# EAGLE library part SAMTEC_LSHM-150-DV_JB2 (library df4iah_connector)
SAMTEC LSHM-150-XX.X-X-DV-A-X-X-TR HIGH-SPEED HERMAPHRODITIC STRIP 100 Pos 0.5 mm padding
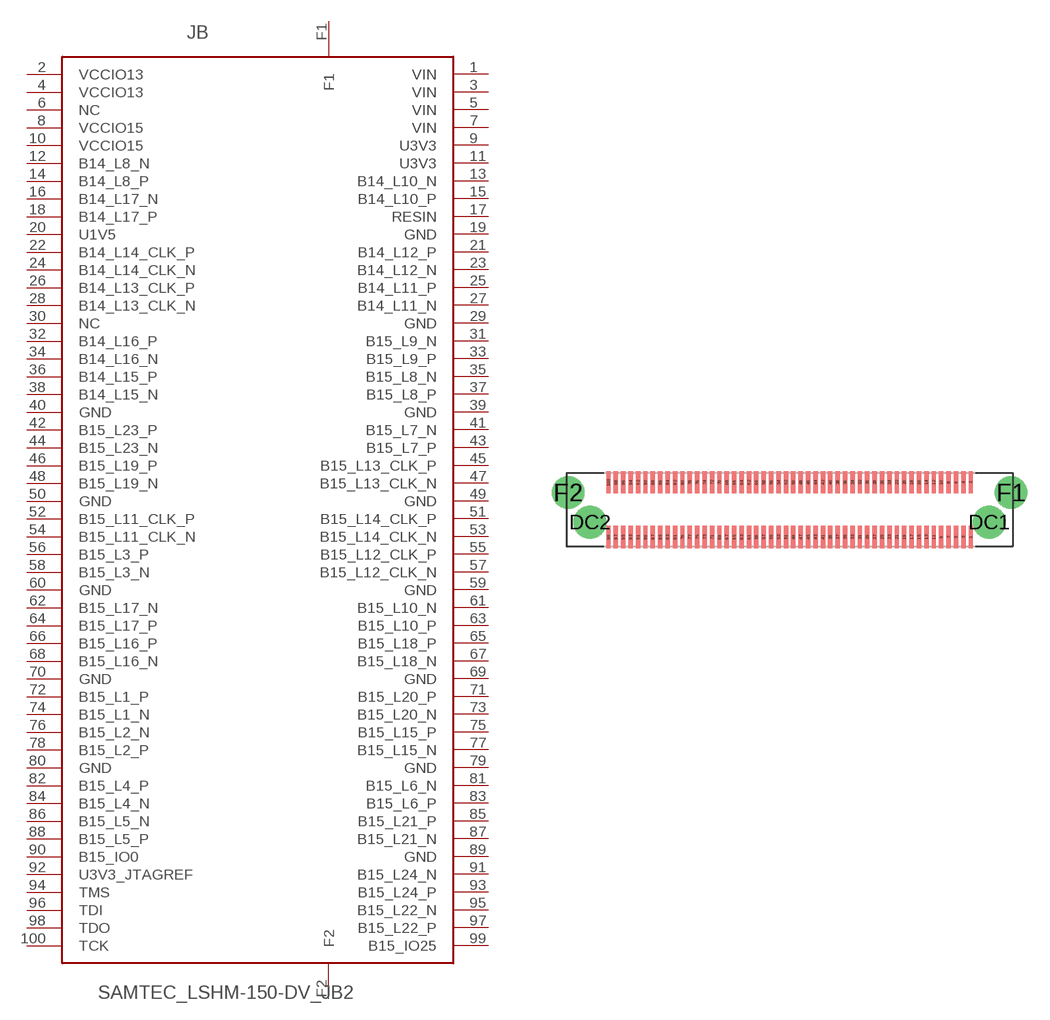
[diagram p33: symbol with the pads of SAMTEC_LSHM-150-DV; footprint SAMTEC_LSHM-150-DV]

Designator prefix JB

## SAMTEC_LSHM-150-DV_JB2  [SAMTEC_LSHM-150-DV]
1  VIN  pwr
2  VCCIO13  pwr
3  VIN  pwr
4  VCCIO13  pwr
5  VIN  pwr
6  NC  nc
7  VIN  pwr
8  VCCIO15  pwr
9  U3V3  sup
10  VCCIO15  pwr
11  U3V3  sup
12  B14_L8_N  pas
13  B14_L10_N  pas
14  B14_L8_P  pas
15  B14_L10_P  pas
16  B14_L17_N  pas
17  RESIN  in
18  B14_L17_P  pas
19  GND  pas
20  U1V5  sup
21  B14_L12_P  pas
22  B14_L14_CLK_P  pas
23  B14_L12_N  pas
24  B14_L14_CLK_N  pas
25  B14_L11_P  pas
26  B14_L13_CLK_P  pas
27  B14_L11_N  pas
28  B14_L13_CLK_N  pas
29  GND  pas
30  NC  nc
31  B15_L9_N  pas
32  B14_L16_P  pas
33  B15_L9_P  pas
34  B14_L16_N  pas
35  B15_L8_N  pas
36  B14_L15_P  pas
37  B15_L8_P  pas
38  B14_L15_N  pas
39  GND  pas
40  GND  pas
41  B15_L7_N  pas
42  B15_L23_P  pas
43  B15_L7_P  pas
44  B15_L23_N  pas
45  B15_L13_CLK_P  pas
46  B15_L19_P  pas
47  B15_L13_CLK_N  pas
48  B15_L19_N  pas
49  GND  pas
50  GND  pas
51  B15_L14_CLK_P  pas
52  B15_L11_CLK_P  pas
53  B15_L14_CLK_N  pas
54  B15_L11_CLK_N  pas
55  B15_L12_CLK_P  pas
56  B15_L3_P  pas
57  B15_L12_CLK_N  pas
58  B15_L3_N  pas
59  GND  pas
60  GND  pas
61  B15_L10_N  pas
62  B15_L17_N  pas
63  B15_L10_P  pas
64  B15_L17_P  pas
65  B15_L18_P  pas
66  B15_L16_P  pas
67  B15_L18_N  pas
68  B15_L16_N  pas
69  GND  pas
70  GND  pas
71  B15_L20_P  pas
72  B15_L1_P  pas
73  B15_L20_N  pas
74  B15_L1_N  pas
75  B15_L15_P  pas
76  B15_L2_N  pas
77  B15_L15_N  pas
78  B15_L2_P  pas
79  GND  pas
80  GND  pas
81  B15_L6_N  pas
82  B15_L4_P  pas
83  B15_L6_P  pas
84  B15_L4_N  pas
85  B15_L21_P  pas
86  B15_L5_N  pas
87  B15_L21_N  pas
88  B15_L5_P  pas
89  GND  pas
90  B15_IO0  pas
91  B15_L24_N  pas
92  U3V3_JTAGREF  sup
93  B15_L24_P  pas
94  TMS  in
95  B15_L22_N  pas
96  TDI  in
97  B15_L22_P  pas
98  TDO  out
99  B15_IO25  pas
100  TCK  in
F1  F1  pas
F2  F2  pas

## Footprint SAMTEC_LSHM-150-DV (pad centres in mm)
SAMTEC LSHM-150-XX.X-X-DV-A-X-X-TR HIGH-SPEED HERMAPHRODITIC STRIP 100 Pos 0.5 mm padding
smd 0.3 x 1.5: 1 12.25,-1.85; 2 12.25,1.85; 3 11.75,-1.85; 4 11.75,1.85; 5 11.25,-1.85; 6 11.25,1.85; 7 10.75,-1.85; 8 10.75,1.85; 9 10.25,-1.85; 10 10.25,1.85; 11 9.75,-1.85; 12 9.75,1.85; 13 9.25,-1.85; 14 9.25,1.85; 15 8.75,-1.85; 16 8.75,1.85; 17 8.25,-1.85; 18 8.25,1.85; 19 7.75,-1.85; 20 7.75,1.85; 21 7.25,-1.85; 22 7.25,1.85; 23 6.75,-1.85; 24 6.75,1.85; 25 6.25,-1.85; 26 6.25,1.85; 27 5.75,-1.85; 28 5.75,1.85; 29 5.25,-1.85; 30 5.25,1.85; 31 4.75,-1.85; 32 4.75,1.85; 33 4.25,-1.85; 34 4.25,1.85; 35 3.75,-1.85; 36 3.75,1.85; 37 3.25,-1.85; 38 3.25,1.85; 39 2.75,-1.85; 40 2.75,1.85; 41 2.25,-1.85; 42 2.25,1.85; 43 1.75,-1.85; 44 1.75,1.85; 45 1.25,-1.85; 46 1.25,1.85; 47 0.75,-1.85; 48 0.75,1.85; 49 0.25,-1.85; 50 0.25,1.85; 51 -0.25,-1.85; 52 -0.25,1.85; 53 -0.75,-1.85; 54 -0.75,1.85; 55 -1.25,-1.85; 56 -1.25,1.85; 57 -1.75,-1.85; 58 -1.75,1.85; 59 -2.25,-1.85; 60 -2.25,1.85; 61 -2.75,-1.85; 62 -2.75,1.85; 63 -3.25,-1.85; 64 -3.25,1.85; 65 -3.75,-1.85; 66 -3.75,1.85; 67 -4.25,-1.85; 68 -4.25,1.85; 69 -4.75,-1.85; 70 -4.75,1.85; 71 -5.25,-1.85; 72 -5.25,1.85; 73 -5.75,-1.85; 74 -5.75,1.85; 75 -6.25,-1.85; 76 -6.25,1.85; 77 -6.75,-1.85; 78 -6.75,1.85; 79 -7.25,-1.85; 80 -7.25,1.85; 81 -7.75,-1.85; 82 -7.75,1.85; 83 -8.25,-1.85; 84 -8.25,1.85; 85 -8.75,-1.85; 86 -8.75,1.85; 87 -9.25,-1.85; 88 -9.25,1.85; 89 -9.75,-1.85; 90 -9.75,1.85; 91 -10.25,-1.85; 92 -10.25,1.85; 93 -10.75,-1.85; 94 -10.75,1.85; 95 -11.25,-1.85; 96 -11.25,1.85; 97 -11.75,-1.85; 98 -11.75,1.85; 99 -12.25,-1.85; 100 -12.25,1.85
drill 1.5 pad 1.55: DC1 13.5,-0.85; DC2 -13.5,-0.85
drill 1 pad 2.2: F1 14.975,1.15; F2 -14.975,1.15